# Altium schematic symbol library LiPoSchematicLibrary.SchLib: 1 symbol
Pins are listed as number, name and electrical type; pins without a type are passive.

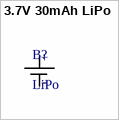
[diagram p0: symbol 3.7V 30mAh LiPo]

## 3.7V 30mAh LiPo
designator B?, comment LiPo
pins: 0 +, 1 -